# EAGLE library part LOGIC,BUFFER,BIDIR,QUAD (library QuantumOptics)
Translator/Buffer, quad bidirectional, based on SN74AVC4T774.
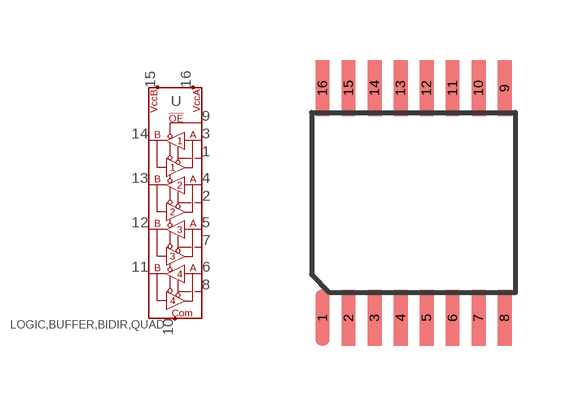
[diagram p211: symbol with the pads of TSSOP-16; footprint TSSOP-16]

Designator prefix U

## LOGIC,BUFFER,BIDIR,QUAD-TSSOP16  [TSSOP-16]
1  DIR1  in
2  DIR2  in
3  A1
4  A2
5  A3
6  A4
7  DIR3  in
8  DIR4  in
9  !OE  in
10  COM
11  B4
12  B3
13  B2
14  B1
15  VCCB
16  VCCA

## Footprint TSSOP-16 (pad centres in mm)
TSSOP-16, based on Maxim with 4.4mm body.
smd 0.35 x 1.4: 1 -2.275,-2.875; 2 -1.625,-2.875; 3 -0.975,-2.875; 4 -0.325,-2.875; 5 0.325,-2.875; 6 0.975,-2.875; 7 1.625,-2.875; 8 2.275,-2.875; 9 2.275,2.875; 10 1.625,2.875; 11 0.975,2.875; 12 0.325,2.875; 13 -0.325,2.875; 14 -0.975,2.875; 15 -1.625,2.875; 16 -2.275,2.875